# Altium schematic symbol library UWR1A101MCL1GB.SchLib: 2 symbols
Pins are listed as number, name and electrical type; pins without a type are passive.

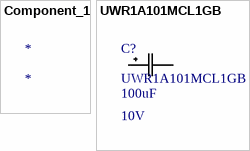
[diagram p0: symbols Component_1 to UWR1A101MCL1GB]

## Component_1
designator *

## UWR1A101MCL1GB
designator C?  Voltage: 10V  Capacitance: 100uF
No Description Available; Manufacturer: Nichicon; Type: DEV; Copyright: Copyright (C) 2022 Ultra Librarian. All rights reserved.; Manufacturer Part Number: UWR1A101MCL1GB; Digi-Key_Part_Number_1: 493-14561-1-ND; Digi-Key_Part_Number_2: 493-14561-2-ND; Digi-Key_Part_Number_3: 493-14561-6-ND; RefDes: RefDes; Supplier: Digi-Key; Supplier Part Number: 493-14561-1-ND
footprint CAP_UWF_5X5P4_NCH
pins: 1, 2